# Altium integrated library MAX14850ASET.IntLib: 1 symbol
Pins are listed as number, name and electrical type; pins without a type are passive.

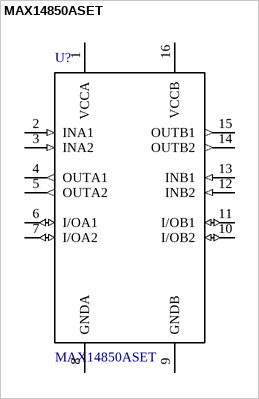
[diagram p0: symbol MAX14850ASET]

## MAX14850ASET
designator U?
Digital Isolator, 6-Ch, 30ns, Nsoic-16; MF: Maxim Integrated; MP: MAX14850ASE+; SnapEDA_Link: https://www.snapeda.com/parts/MAX14850ASE%2B/Maxim%20Integrated/view-part/?ref=snap; Availability: Unavailable; Price: None; Package: SOIC-16 Maxim; Value: *
footprint *SOIC127P600X175-16N
pins: 1 VCCA (power), 2 INA1 (in), 3 INA2 (in), 4 OUTA1 (out), 5 OUTA2 (out), 6 I/OA1 (io), 7 I/OA2 (io), 8 GNDA (power), 9 GNDB (power), 10 I/OB2 (io), 11 I/OB1 (io), 12 INB2 (in), 13 INB1 (in), 14 OUTB2 (out), 15 OUTB1 (out), 16 VCCB (power)